# Altium schematic symbol library DTM1312PC12PDR008.SchLib: 1 symbol
Pins are listed as number, name and electrical type; pins without a type are passive.

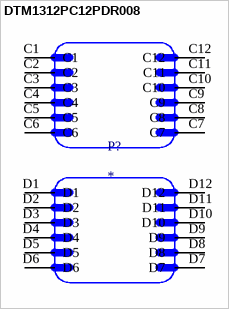
[diagram p0: symbol DTM1312PC12PDR008]

## DTM1312PC12PDR008
designator P?
12pin Receptacle 90Â° Header C & D KEY; MP: DTM1312PC12PDR008; Package: None; Price: None; Value: *; Availability: Unavailable
footprint TE_DTM1312PC12PDR008
pins: C1, C2, C3, C4, C5, C6, C7, C8, C9, C10, C11, C12, D1, D2, D3, D4, D5, D6, D7, D8, D9, D10, D11, D12